# Altium footprint library thymio2-main.PcbLib: 38 footprints (part 2 of 3)
Each footprint in its own frame and in the unit in brackets; x right, y up, seen from the top. Pads: shape width x height; smd on the part's side, far side on the other; paste and mask are expansions set on the pad; w line width, h text height; cw(c..) or ccw(c..) is an arc to the next point about the centre after c.
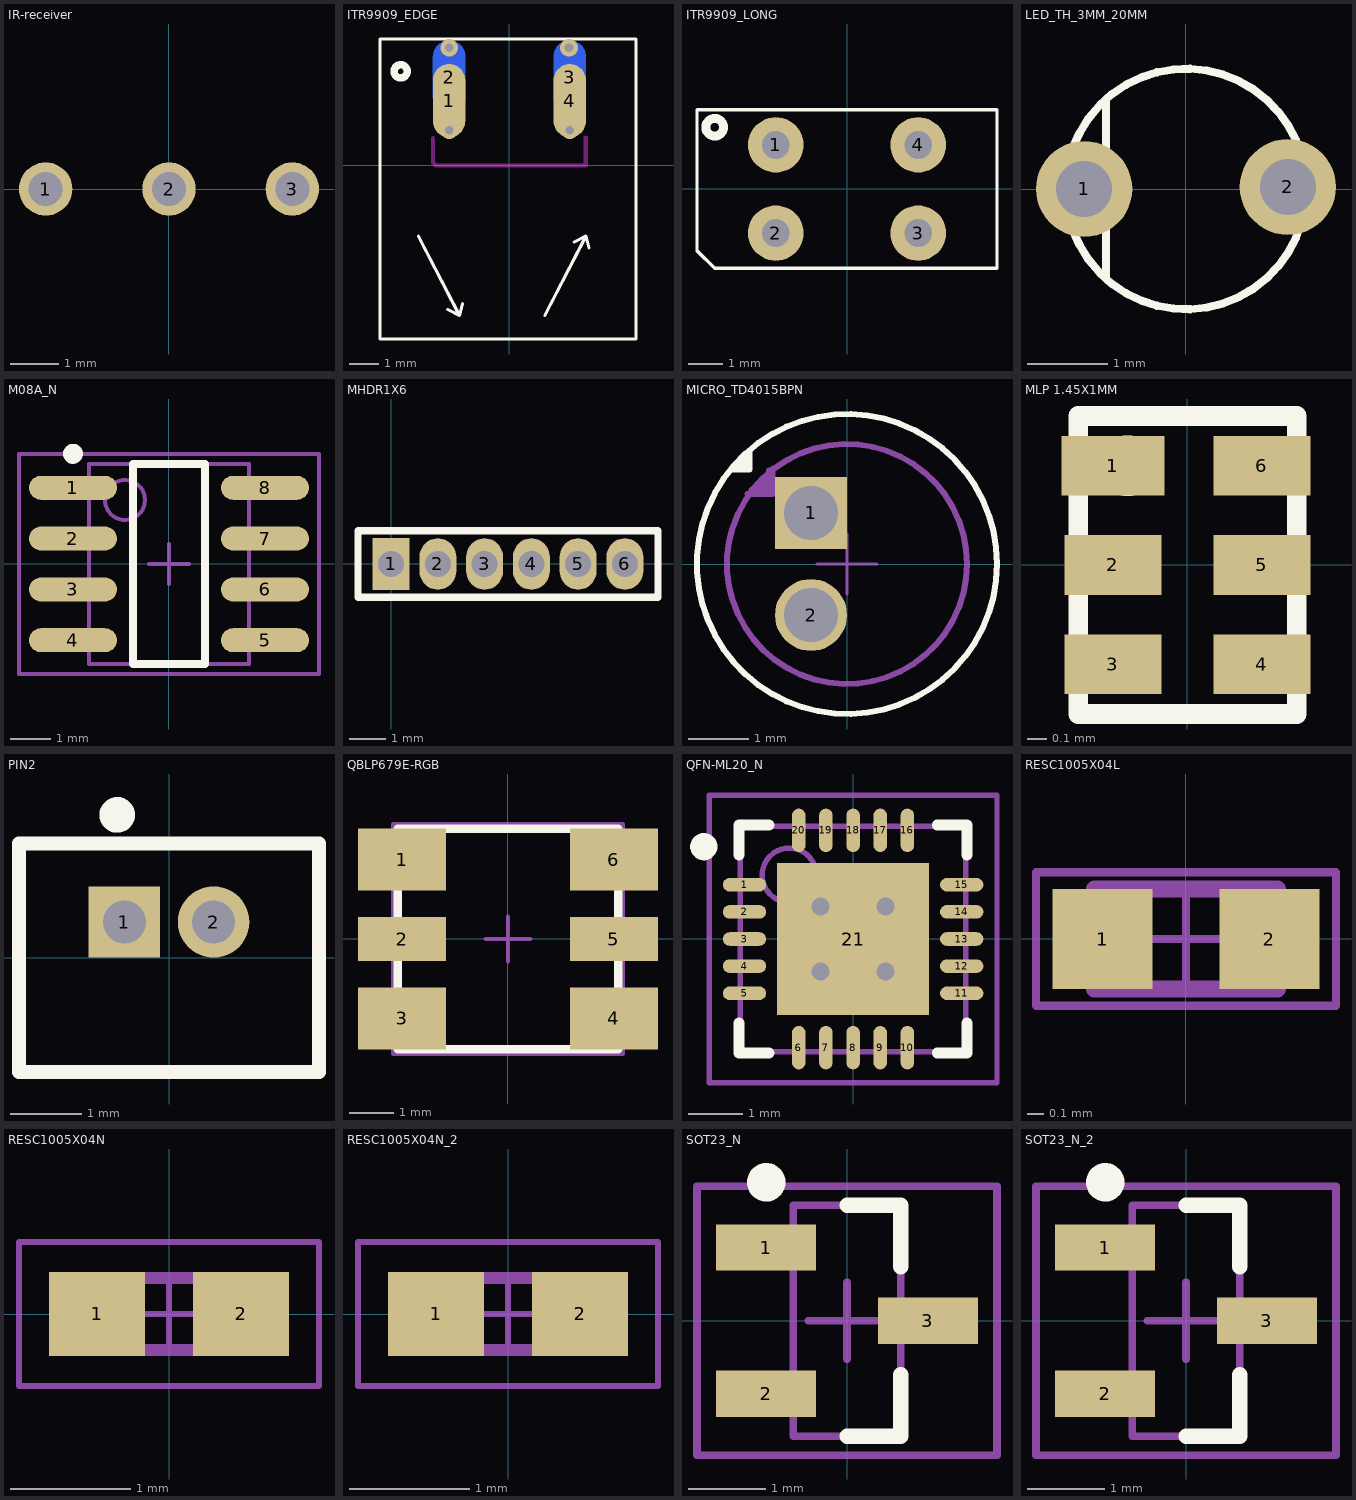
[diagram p1: the footprints below, top view; thin cyan lines are the x and y axes]

## IR-receiver [mm] "Infrared Remote control Receiver Module 6x5.6x8.25mm"
height 8.25
pads (3):
  round 1.1 hole 0.7: 1(-2.54,0) 2(0,0) 3(2.54,0)
3D body "irm-3636t.stp": height 8.3, standoff -1.55, extent -3,-4.1 3,1.5

## ITR9909_EDGE [mm] "ITR9909 place on the border of the PCB"
pads (4):
  oval 1.1x2.5 smd paste-0.1 mask-0.05: 1(-2.05,2.2) 4(2.05,2.2)
  oval 1.1x2.5 smd far side paste-0.1 mask-0.05: 2(-2.05,3) 3(2.05,3)
via 2.025,4 diameter 0.6 hole 0.3
via 2.05,1.2 diameter 0.6 hole 0.3
via -2.05,1.2 diameter 0.6 hole 0.3
via -2.05,4 diameter 0.6 hole 0.3
Top Overlay:
  circle w0.254: c-3.7,3.2 r0.224
  lines w0.1: -3.1,-2.4 -1.7,-5.1 ; -2.1,-4.9 -1.7,-5.1 ; -1.6,-4.7 -1.7,-5.1 ; 1.2,-5.1 2.6,-2.4 ; 2.2,-2.6 2.6,-2.4 ; 2.7,-2.8 2.6,-2.4 ; -4.4,-5.9 4.3,-5.9 4.3,4.3 -4.4,4.3 -4.4,-5.9
Bottom Overlay:
  lines w0.1: -4,-5.9 -4,4.3 ; -4.4,-5.9 -4.4,4.3 4.3,4.3 4.3,-5.9 -4.4,-5.9
Keep-Out Layer:
  lines w0.15: -2.6,0.925 -2.6,0.1 -2.5,0 2.6,0 2.6,0.95
3D body "itr9909.stp": height 1.45, standoff -3.05, extent -4.35,-5.9 4.35,4

## ITR9909_LONG [mm] "ITR9909 place at the end of the pad"
pads (4):
  round 1.6 hole 0.8: 1(-2.05,1.27) 2(-2.05,-1.27) 3(2.05,-1.27) 4(2.05,1.27)
Top Overlay:
  circle w0.254: c-3.81,1.778 r0.254
  lines w0.1: -4.318,-1.778 -4.318,2.286 4.318,2.286 4.318,-2.286 -3.81,-2.286 -4.318,-1.778
3D body "itr9909long.stp": height 23.9, standoff -2, extent -4.35,-2.25 4.35,2.25

## LED_TH_3MM_20MM [mm] "Truhole led at 3mm"
height 20
pads (2):
  round 1.2 hole 0.7: 1(-1.27,0) 2(1.27,0.025)
Top Overlay:
  circle w0.1: c0,0 r1.5
  lines w0.1: -1,-1.1 -1,1.1
3D body "led3mm.stp": height 22.75, standoff -2.85, extent -1.625,-1.599 1.495,1.6

## M08A_N [mm] "SOIC, 8-Leads, Body 4.9x3.9mm, Pitch 1.27mm, IPC Medium Density"
height 1.75
pads (8):
  oval 2.2x0.6 smd: 1(-2.4,1.905) 2(-2.4,0.635) 3(-2.4,-0.635) 4(-2.4,-1.905) 5(2.4,-1.905) 6(2.4,-0.635) 7(2.4,0.635) 8(2.4,1.905)
Top Overlay:
  circle w0.25: c-2.4,2.755 r0.125
  lines w0.2: -0.9,-2.5 -0.9,2.5 0.9,2.5 0.9,-2.5 -0.9,-2.5
Mechanical 13:
  circle w0.1: c-1.1,1.6 r0.5
  lines w0.1: -2,-2.5 -2,2.5 2,2.5 2,-2.5 -2,-2.5
Mechanical 15:
  lines w0.1: -0.5,0 0.5,0 ; 0,-0.5 0,0.5 ; -3.75,-2.75 -3.75,2.75 3.75,2.75 3.75,-2.75 -3.75,-2.75
3D body: height 1.75, standoff 0, extent -2,-2.5 2,2.5

## MHDR1X6 [mm] "Connector; Header; 6 Position"
pads (6):
  rect 1x1.4 hole 0.7: 1(0,0)
  rrect100% 1x1.4 hole 0.7: 2(1.27,0) 3(2.54,0) 4(3.81,0) 5(5.08,0) 6(6.35,0)
Top Overlay:
  lines w0.2: -0.9,-0.9 7.25,-0.9 7.25,0.9 -0.9,0.9 -0.9,-0.9
3D body: height 5, standoff 0.1, extent -0.901,-0.901 7.251,0.9

## MICRO_TD4015BPN [mm] "Omnidirectional Back Electret Condenser Microphone Cartridge"
height 1.5
pads (2):
  rect 1.2x1.2 hole 0.9: 1(-0.6,0.85)
  round 1.2 hole 0.9: 2(-0.6,-0.85)
Top Overlay:
  circle w0.1: c0,0 r2.5
  lines w0.1: -1.837,1.646 -1.696,1.646 -1.696,1.787 ; -1.908,1.575 -1.625,1.858 -1.625,1.575 -1.908,1.575
Mechanical 13:
  circle w0.1: c0,0 r2
  lines w0.1: -1.662,1.163 -1.238,1.163 -1.238,1.587 ; -1.591,1.234 -1.309,1.234 ; -1.521,1.304 -1.379,1.304 -1.379,1.446 ; -1.3,1.275 -1.3,1.558
Mechanical 15:
  circle w0.05: c0,0 r2.5
  lines w0.05: -0.5,0 0,0 ; 0,-0.5 0,0 ; 0,0.5 0,0 ; 0.5,0 0,0
3D body: height 1.6, standoff 0, extent -1.984,-1.996 2,1.996

## MLP 1.45X1MM [mm] "6-lead MicroPack MLP Farshild"
height 0.55
pads (6):
  rect 0.52x0.3 smd paste-0.02: 1(-0.375,0.5)
  rect 0.49x0.3 smd paste-0.02: 2(-0.375,0) 3(-0.375,-0.5) 4(0.375,-0.5) 5(0.375,0) 6(0.375,0.5)
Top Overlay:
  circle w0.254: c-0.3,0.5 r0.025
  lines w0.1: -0.55,-0.75 0.55,-0.75 0.55,0.75 -0.55,0.75 -0.55,-0.75
3D body: height 0.55, standoff 0, extent -0.5,-0.725 0.5,0.725

## PIN2 [mm] "Photosensitive Diode; 2 Leads"
pads (2):
  rect 1x1 hole 0.6: 1(-0.625,0.5)
  round 1 hole 0.6: 2(0.625,0.5)
Top Overlay:
  circle w0.25: c-0.725,2 r0.125
  lines w0.2: -2.1,-1.6 2.1,-1.6 2.1,1.6 -2.1,1.6 -2.1,-1.6
3D body "c-1734598-2-o-3d.stp": height 4.72, standoff -1.68, extent -2.125,-1.6 2.125,1.6

## QBLP679E-RGB [mm] "PLCC6 RGB LED"
height 1.6
pads (6):
  rect 2x1.4 smd: 1(-2.4,1.8) 3(-2.4,-1.8) 4(2.4,-1.8) 6(2.4,1.8)
  rect 2x1 smd: 2(-2.4,0) 5(2.4,0)
Top Overlay:
  circle w0.25: c-2.125,2 r0.125
  lines w0.2: -2.5,-2.5 2.5,-2.5 2.5,2.5 -2.5,2.5 -2.5,-2.5
Mechanical 13:
  circle w0.1: c-2.164,2 r0.364
  lines w0.1: -2.5,-2.5 2.5,-2.5 2.5,2.5 -2.5,2.5 -2.5,-2.5
Mechanical 15:
  lines w0.1: -0.5,0 0,0 ; 0,-0.5 0,0 ; 0,0.5 0,0 ; 0.5,0 0,0 ; -2.6,-2.6 2.6,-2.6 2.6,2.6 -2.6,2.6 -2.6,-2.6
3D body: height 1.6, standoff 0, extent -2.5,-2.5 2.5,2.5
3D body: height 1.9, standoff 0, extent -0.2,1.55 0.2,1.95
3D body: height 1.9, standoff 0, extent -0.2,-1.95 0.2,-1.55
3D body: height 1.9, standoff 0, extent -0.2,-0.2 0.2,0.2
3D body: height 1.65, standoff 1.6, extent -2.475,-2.5 2.5,2.5
3D body: height 1.7, standoff 0, extent -2.187,-2.197 2.213,2.197

## QFN-ML20_N [mm] "QFN, 20-Leads, Body 4x4mm, Pitch 0.5mm, IPC Medium Density"
height 1
pads (21):
  oval 0.8x0.25 smd: 1(-2,1) 2(-2,0.5) 3(-2,0) 4(-2,-0.5) 5(-2,-1) 11(2,-1) 12(2,-0.5) 13(2,0) 14(2,0.5) 15(2,1)
  oval 0.25x0.8 smd: 6(-1,-2) 7(-0.5,-2) 8(0,-2) 9(0.5,-2) 10(1,-2) 16(1,2) 17(0.5,2) 18(0,2) 19(-0.5,2) 20(-1,2)
  rect 2.8x2.8 smd paste-0.5: 21(0,0)
via -0.6,0.6 diameter 0.66 hole 0.33
via 0.6,0.6 diameter 0.66 hole 0.33
via 0.6,-0.6 diameter 0.66 hole 0.33
via -0.6,-0.6 diameter 0.66 hole 0.33
Top Overlay:
  circle w0.25: c-2.75,1.7 r0.125
  lines w0.2: -2.1,-1.55 -2.1,-2.1 -1.55,-2.1 ; -2.1,1.55 -2.1,2.1 -1.55,2.1 ; 1.55,-2.1 2.1,-2.1 2.1,-1.55 ; 1.55,2.1 2.1,2.1 2.1,1.55
Mechanical 13:
  circle w0.1: c-1.175,1.175 r0.5
  lines w0.1: -2.075,-2.075 2.075,-2.075 2.075,2.075 -2.075,2.075 -2.075,-2.075
Mechanical 15:
  lines w0.1: -0.5,0 0.5,0 ; 0,-0.5 0,0.5 ; -2.65,-2.65 2.65,-2.65 2.65,2.65 -2.65,2.65 -2.65,-2.65
3D body: height 1, standoff 0, extent -2.075,-2.075 2.075,2.075

## RESC1005X04L [mm] "Chip Resistor, Body 1.1x0.5mm, IPC High Density, EIA 0402"
height 0.4
pads (2):
  rect 0.6x0.6 smd: 1(-0.5,0) 2(0.5,0)
Mechanical 13:
  lines w0.1: -0.55,-0.3 0.55,-0.3 0.55,0.3 -0.55,0.3 -0.55,-0.3
Mechanical 15:
  lines w0.05: -0.3,0 0.3,0 ; 0,-0.3 0,0.3 ; -0.9,-0.4 0.9,-0.4 0.9,0.4 -0.9,0.4 -0.9,-0.4
3D body: height 0.4, standoff 0, extent -0.55,-0.3 0.55,0.3

## RESC1005X04N [mm] "Chip Resistor, Body 1.1x0.5mm, IPC Medium Density, EIA 0402"
height 0.4
pads (2):
  rect 0.8x0.7 smd: 1(-0.6,0) 2(0.6,0)
Mechanical 13:
  lines w0.1: -0.55,-0.3 -0.55,0.3 0.55,0.3 0.55,-0.3 -0.55,-0.3
Mechanical 15:
  lines w0.05: -0.3,0 0.3,0 ; 0,-0.3 0,0.3 ; -1.25,-0.6 -1.25,0.6 1.25,0.6 1.25,-0.6 -1.25,-0.6
3D body: height 0.4, standoff 0, extent 0.25,-0.3 0.55,0.3
3D body: height 0.4, standoff 0, extent -0.25,-0.3 0.25,0.3
3D body: height 0.4, standoff 0, extent -0.55,-0.3 -0.25,0.3

## RESC1005X04N_2 [mm]
pads (2):
  rect 0.8x0.7 smd: 1(-0.6,0) 2(0.6,0)
Mechanical 13:
  lines w0.1: -0.55,-0.3 0.55,-0.3 0.55,0.3 -0.55,0.3 -0.55,-0.3
Mechanical 15:
  lines w0.05: -0.3,0 0.3,0 ; 0,-0.3 0,0.3 ; -1.25,-0.6 1.25,-0.6 1.25,0.6 -1.25,0.6 -1.25,-0.6
3D body: height 0.4, standoff 0, extent -0.55,-0.3 -0.25,0.3
3D body: height 0.4, standoff 0, extent -0.25,-0.3 0.25,0.3
3D body: height 0.4, standoff 0, extent 0.25,-0.3 0.55,0.3

## SOT23_N [mm] "SOT23, 3-Leads, Body 2.9x1.3mm, Pitch 0.95mm, Lead Span 2.3mm, IPC Medium Density"
height 1.1
pads (3):
  rect 1.3x0.6 smd: 1(-1.05,0.95) 2(-1.05,-0.95) 3(1.05,0)
Top Overlay:
  circle w0.25: c-1.05,1.8 r0.125
  lines w0.2: 0,-1.5 0.7,-1.5 0.7,-0.7 ; 0,1.5 0.7,1.5 0.7,0.7
Mechanical 13:
  lines w0.1: -0.7,-1.5 0.7,-1.5 0.7,1.5 -0.7,1.5 -0.7,-1.5
Mechanical 15:
  lines w0.1: -0.5,0 0.5,0 ; 0,-0.5 0,0.5 ; -1.95,-1.75 1.95,-1.75 1.95,1.75 -1.95,1.75 -1.95,-1.75
3D body: height 1.1, standoff 0, extent -0.7,-1.5 0.7,1.5

## SOT23_N_2 [mm]
pads (3):
  rect 1.3x0.6 smd: 1(-1.05,0.95) 2(-1.05,-0.95) 3(1.05,0)
Top Overlay:
  circle w0.25: c-1.05,1.8 r0.125
  lines w0.2: 0,-1.5 0.7,-1.5 0.7,-0.7 ; 0,1.5 0.7,1.5 0.7,0.7
Mechanical 13:
  lines w0.1: -0.7,-1.5 0.7,-1.5 0.7,1.5 -0.7,1.5 -0.7,-1.5
Mechanical 15:
  lines w0.1: -0.5,0 0.5,0 ; 0,-0.5 0,0.5 ; -1.95,-1.75 1.95,-1.75 1.95,1.75 -1.95,1.75 -1.95,-1.75
3D body: height 1.1, standoff 0, extent -0.7,-1.5 0.7,1.5